# Altium schematic symbol library Schlib1.SchLib: 2 symbols
Pins are listed as number, name and electrical type; pins without a type are passive.

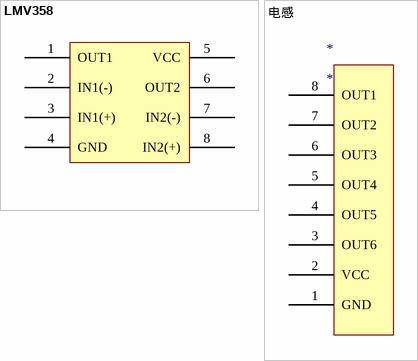
[diagram p0: symbols LMV358 to 电感]

## LMV358
designator ?
pins: 1 OUT1, 2 IN1(-), 3 IN1(+), 4 GND, 5 VCC, 6 OUT2, 7 IN2(-), 8 IN2(+)

## 电感
designator *
pins: 1 GND, 2 VCC, 3 OUT6, 4 OUT5, 5 OUT4, 6 OUT3, 7 OUT2, 8 OUT1